# EAGLE library part 74*78 (library 74ttl-din)
Dual J-K FLIP FLOP, preset, common clock and common clear
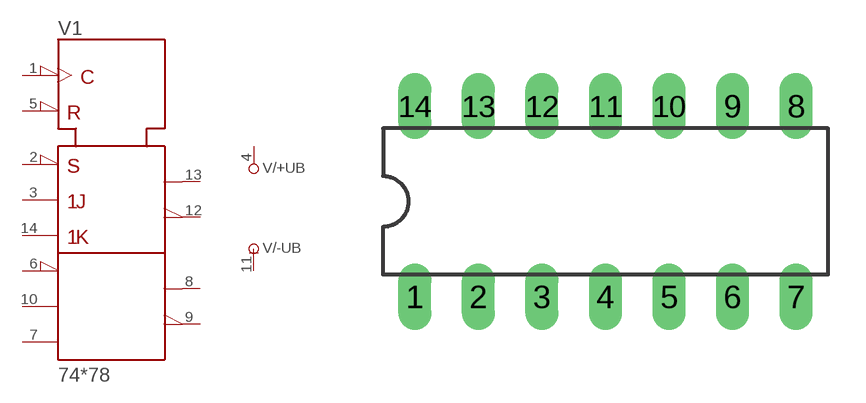
[diagram p37: symbol with the pads of DIL14; footprint DIL14]

Designator prefix V; gates /+UB=+UB /-UB=-UB 1=78

## 7478N  [DIL14]
1  1:CLK  in
2  1:!1PRE  in
3  1:1J  in
4  /+UB:+UB  pwr
5  1:!CLR  in
6  1:!2PRE  in
7  1:2K  in
8  1:2Q  out
9  1:!2Q  out
10  1:2J  in
11  /-UB:-UB  pwr
12  1:!1Q  out
13  1:1Q  out
14  1:1K  in

## Footprint DIL14 (pad centres in mm)
Dual In Line Package
drill 0.813 long: 1 -7.62,-3.81; 2 -5.08,-3.81; 3 -2.54,-3.81; 4 0,-3.81; 5 2.54,-3.81; 6 5.08,-3.81; 7 7.62,-3.81; 8 7.62,3.81; 9 5.08,3.81; 10 2.54,3.81; 11 0,3.81; 12 -2.54,3.81; 13 -5.08,3.81; 14 -7.62,3.81